# EAGLE library part XF2L-0425-1A (library XF2L-0425-1A)
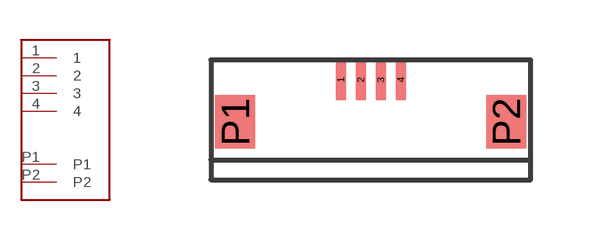
[diagram p0: symbol with the pads of XF2L-0425-1A; footprint XF2L-0425-1A]

Designator prefix -

## XF2L-0425-1A  [XF2L-0425-1A]
1  1
2  2
3  3
4  4
P1  P1
P2  P2

## Footprint XF2L-0425-1A (pad centres in mm)
smd 0.25 x 1: 1 -0.75,0.5; 2 -0.25,0.5; 3 0.25,0.5; 4 0.75,0.5
smd 1 x 1.34: P1 -3.39,-0.55; P2 3.39,-0.55